# Altium footprint library UFQFPN-48.PcbLib: 1 footprints
Each footprint in its own frame and in the unit in brackets; x right, y up, seen from the top. Pads: shape width x height; smd on the part's side, far side on the other; paste and mask are expansions set on the pad; w line width, h text height; cw(c..) or ccw(c..) is an arc to the next point about the centre after c.
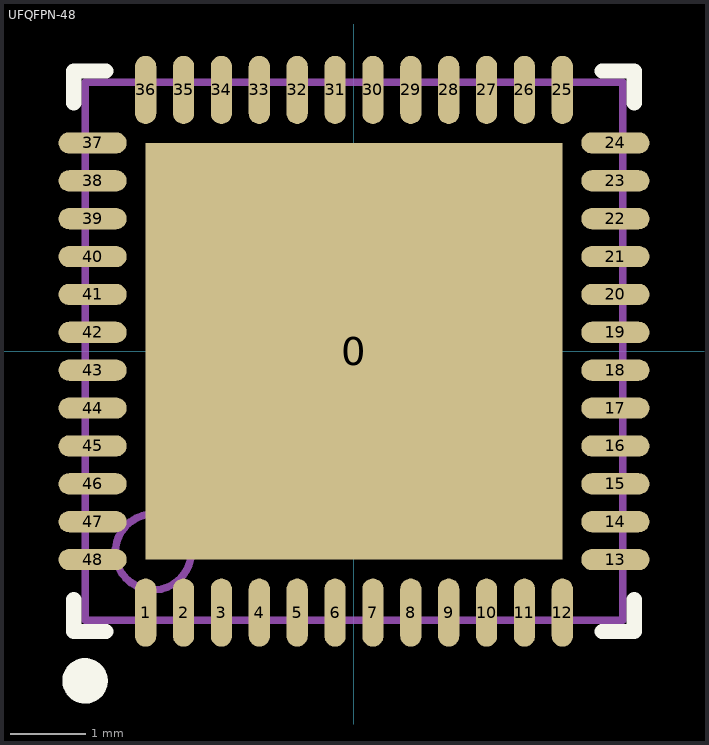
[diagram p0: the footprint, top view; thin cyan lines are the x and y axes]

## UFQFPN-48 [mm]
pads (49):
  rect 5.5x5.5 smd mask+0.051: 0(0,0)
  oval 0.28x0.9 smd mask+0.051: 1(-2.75,-3.45) 2(-2.25,-3.45) 3(-1.75,-3.45) 4(-1.25,-3.45) 5(-0.75,-3.45) 6(-0.25,-3.45) 7(0.25,-3.45) 8(0.75,-3.45) 9(1.25,-3.45) 10(1.75,-3.45) 11(2.25,-3.45) 12(2.75,-3.45) 25(2.75,3.45) 26(2.25,3.45) 27(1.75,3.45) 28(1.25,3.45) 29(0.75,3.45) 30(0.25,3.45) 31(-0.25,3.45) 32(-0.75,3.45) 33(-1.25,3.45) 34(-1.75,3.45) 35(-2.25,3.45) 36(-2.75,3.45)
  oval 0.9x0.28 smd mask+0.051: 13(3.45,-2.75) 14(3.45,-2.25) 15(3.45,-1.75) 16(3.45,-1.25) 17(3.45,-0.75) 18(3.45,-0.25) 19(3.45,0.25) 20(3.45,0.75) 21(3.45,1.25) 22(3.45,1.75) 23(3.45,2.25) 24(3.45,2.75) 37(-3.45,2.75) 38(-3.45,2.25) 39(-3.45,1.75) 40(-3.45,1.25) 41(-3.45,0.75) 42(-3.45,0.25) 43(-3.45,-0.25) 44(-3.45,-0.75) 45(-3.45,-1.25) 46(-3.45,-1.75) 47(-3.45,-2.25) 48(-3.45,-2.75)
Top Overlay:
  circle w0.3: c-3.55,-4.35 r0.15
  lines w0.2: -3.7,-3.275 -3.7,-3.7 -3.275,-3.7 ; -3.7,3.275 -3.7,3.7 -3.275,3.7 ; 3.275,-3.7 3.7,-3.7 3.7,-3.275 ; 3.275,3.7 3.7,3.7 3.7,3.275
Mechanical 13:
  circle w0.1: c-2.65,-2.65 r0.5
  lines w0.1: -3.55,-3.55 -3.55,3.55 3.55,3.55 3.55,-3.55 -3.55,-3.55